# Altium schematic symbol library TP25TH10.Schlib: 1 symbol
Pins are listed as number, name and electrical type; pins without a type are passive.

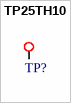
[diagram p0: symbol TP25TH10]

## TP25TH10
designator TP?, comment TESTPOINT  (value not drawn)  (no BOM)
0.025"/0.010" Thru Hole Test Point
pins: 1